# Altium footprint library Buzzer_Beeper.PcbLib: 35 footprints (part 2 of 3)
Each footprint in its own frame and in the unit in brackets; x right, y up, seen from the top. Pads: shape width x height; smd on the part's side, far side on the other; paste and mask are expansions set on the pad; w line width, h text height; cw(c..) or ccw(c..) is an arc to the next point about the centre after c.
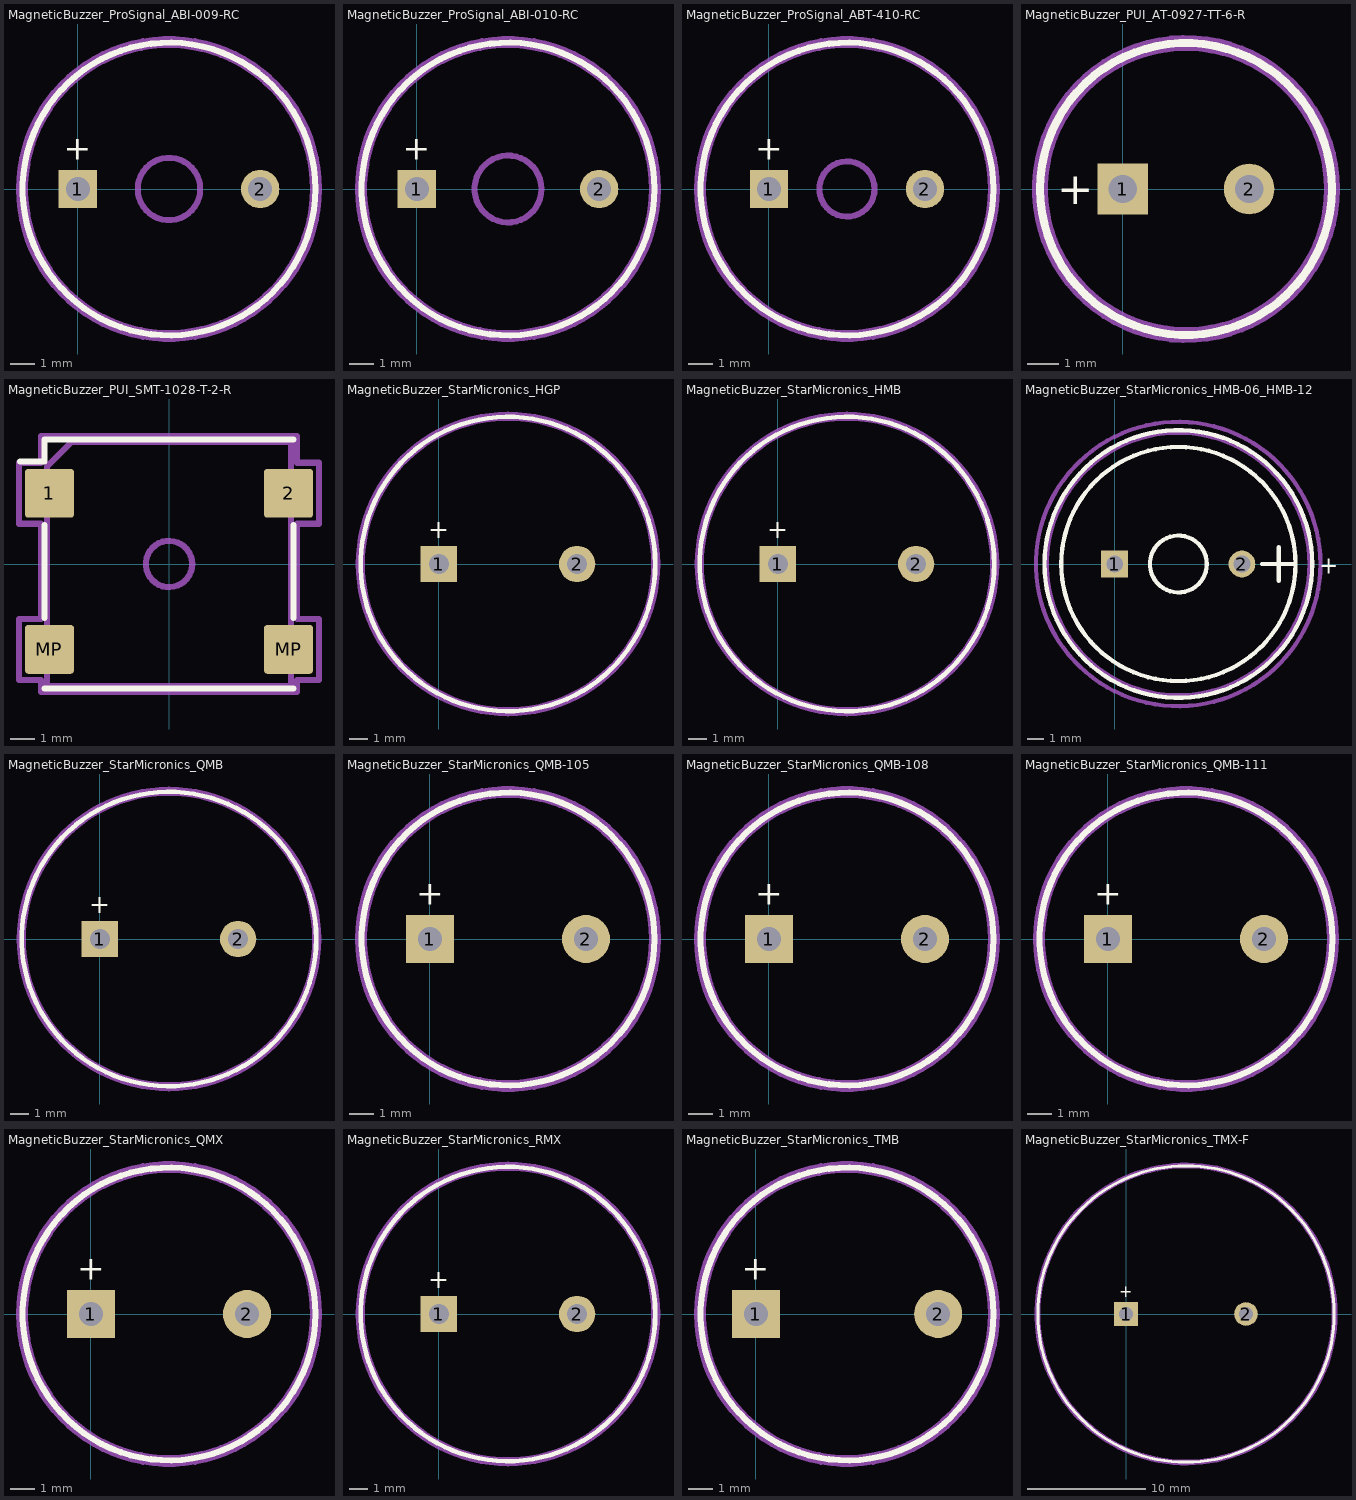
[diagram p1: the footprints below, top view; thin cyan lines are the x and y axes]

## MagneticBuzzer_ProSignal_ABI-009-RC [mm]
pads (2):
  rect 1.6x1.6 hole 1: 1(0,0)
  round 1.6 hole 1: 2(7.6,0)
F.SilkS:
  circle w0.254: c3.8,0 r6.1
  text "+" at -0.578,1.222 h1
Top Assembly:
  circle w0.254: c3.8,0 r6
  circle w0.254: c3.8,0 r1.3
  text "+" at -0.578,1.222 h1
  text "'.Designator'" at -0.247,6.16 h1
Top Courtyard:
  circle w0.254: c3.8,0 r6.25
Top Designator:
  text ".Designator" at -3.818,-0.018 h1.52
3D body "MagneticBuzzer_ProSignal_ABI-009-RC.step": height 9.53, standoff -3, extent -2.2,-6 9.8,6

## MagneticBuzzer_ProSignal_ABI-010-RC [mm]
pads (2):
  rect 1.6x1.6 hole 1: 1(0,0)
  round 1.6 hole 1: 2(7.6,0)
F.SilkS:
  circle w0.254: c3.8,0 r6.1
  text "+" at -0.578,1.222 h1
Top Assembly:
  circle w0.254: c3.8,0 r6
  circle w0.254: c3.8,0 r1.393
  text "'.Designator'" at -0.247,6.16 h1
  text "+" at -0.578,1.222 h1
Top Courtyard:
  circle w0.254: c3.8,0 r6.25
Top Designator:
  text ".Designator" at -3.818,-0.018 h1.52
3D body "MagneticBuzzer_ProSignal_ABI-010-RC.step": height 9.53, standoff -3, extent -2.2,-6 9.8,6

## MagneticBuzzer_ProSignal_ABT-410-RC [mm]
pads (2):
  rect 1.6x1.6 hole 1: 1(0,0)
  round 1.6 hole 1: 2(6.5,0)
F.SilkS:
  circle w0.254: c3.25,0 r6.1
  text "+" at -0.578,1.222 h1
Top Assembly:
  circle w0.254: c3.25,0 r6
  circle w0.254: c3.25,0 r1.15
  text "'.Designator'" at -0.797,6.16 h1
  text "+" at -0.578,1.222 h1
Top Courtyard:
  circle w0.254: c3.25,0 r6.25
Top Designator:
  text ".Designator" at -4.368,-0.018 h1.52
3D body "MagneticBuzzer_ProSignal_ABT-410-RC.step": height 8.53, standoff -3, extent -2.75,-6 9.25,6

## MagneticBuzzer_PUI_AT-0927-TT-6-R [mm]
pads (2):
  rect 1.6x1.6 hole 0.9: 1(0,0)
  round 1.6 hole 0.9: 2(4,0)
F.SilkS:
  circle w0.254: c2,0 r4.62
  text "+" at -2.078,-0.478 h1
Top Assembly:
  circle w0.254: c2,0 r4.5
  text "+" at -2.078,-0.478 h1
  text "'.Designator'" at -2.047,-2.84 h1
Top Courtyard:
  circle w0.254: c2,0 r4.75
Top Designator:
  text ".Designator" at -5.618,-0.508 h1.52

## MagneticBuzzer_PUI_SMT-1028-T-2-R [mm]
pads (4):
  rrect12% 2x2 smd: 1(-4.9,2.9) 2(4.9,2.9) MP(-4.9,-3.5) MP(4.9,-3.5)
F.SilkS:
  lines w0.254: -6.1,4.2 -5.1,4.2 -5.1,5.1 5.1,5.1 ; -5.1,-5.1 5.1,-5.1 ; -5.1,-2.2 -5.1,1.6 ; 5.1,-2.2 5.1,1.6
Top Assembly:
  lines w0.254: -5,-5 -5,4 -4,5 5,5 5,-5 -5,-5
  text "'.Designator'" at -3.947,-0.94 h1
  text "+" at -2.772,2.372 h1
Top Courtyard:
  lines w0.254: -6.15,-4.75 -6.15,-2.25 -5.25,-2.25 -5.25,1.65 -6.15,1.65 -6.15,4.15 -5.25,4.15 -5.25,5.25 5.25,5.25 5.25,4.15 6.15,4.15 6.15,1.65 5.25,1.65 5.25,-2.25 6.15,-2.25 6.15,-4.75 5.25,-4.75 5.25,-5.25 -5.25,-5.25 -5.25,-4.75 -6.15,-4.75
Top Designator:
  text ".Designator" at -7.618,-0.508 h1.52
Cmts.User:
  circle w0.254: c0,0 r0.95

## MagneticBuzzer_StarMicronics_HGP [mm]
pads (2):
  rect 2x2 hole 1.1: 1(0,0)
  round 2 hole 1.1: 2(7.6,0)
F.SilkS:
  circle w0.254: c3.8,0 r8.1
  text "+" at -0.578,1.422 h1
Top Assembly:
  circle w0.254: c3.8,0 r8
  text "'.Designator'" at -0.247,8.16 h1
  text "+" at -0.578,1.422 h1
Top Courtyard:
  circle w0.254: c3.8,0 r8.25
Top Designator:
  text ".Designator" at -3.818,-0.018 h1.52

## MagneticBuzzer_StarMicronics_HMB [mm]
pads (2):
  rect 2x2 hole 1.1: 1(0,0)
  round 2 hole 1.1: 2(7.6,0)
F.SilkS:
  circle w0.254: c3.8,0 r8.1
  text "+" at -0.578,1.422 h1
Top Assembly:
  circle w0.254: c3.8,0 r8
  text "'.Designator'" at -0.247,8.16 h1
  text "+" at -0.578,1.422 h1
Top Courtyard:
  circle w0.254: c3.8,0 r8.25
Top Designator:
  text ".Designator" at -3.818,-0.018 h1.52

## MagneticBuzzer_StarMicronics_HMB-06_HMB-12 [mil]
pads (2):
  rect 63x63 hole 39.4: 1(0,0)
  round 63 hole 39.4: 2(299.61,0)
F.SilkS:
  circle w10: c150,0 r66.9
  circle w10: c150,0 r275.6
  circle w10: c150,0 r315
  lines w10: 346.9,0 425.6,0 ; 386.2,-39.4 386.2,39.4
  text "+" at 481.53,-22.77 h39.37
Top Assembly:
  circle w10: c149.61,0 r309.12
  text "'.Designator'" at -1.84,85.03 h39.37
Top Courtyard:
  circle w10: c149.61,0 r334.65
Top Designator:
  text ".Designator" at -134.34,-19.99 h60
3D body "MagneticBuzzer_StarMicronics_HMB-06_HMB-12.step": height 552.36, standoff -236.22, extent -164.96,-314.95 464.96,314.97

## MagneticBuzzer_StarMicronics_QMB [mm]
pads (2):
  rect 2x2 hole 1.1: 1(0,0)
  round 2 hole 1.1: 2(7.6,0)
F.SilkS:
  circle w0.254: c3.8,0 r8.1
  text "+" at -0.578,1.422 h1
Top Assembly:
  circle w0.254: c3.8,0 r8
  text "+" at -0.578,1.422 h1
  text "'.Designator'" at -0.247,8.16 h1
Top Courtyard:
  circle w0.254: c3.8,0 r8.25
Top Designator:
  text ".Designator" at -3.818,-0.018 h1.52

## MagneticBuzzer_StarMicronics_QMB-105 [mm]
pads (2):
  rect 2x2 hole 1: 1(0,0)
  round 2 hole 1: 2(6.5,0)
F.SilkS:
  circle w0.254: c3.25,0 r6.1
  text "+" at -0.578,1.422 h1
Top Assembly:
  circle w0.254: c3.25,0 r6
  text "'.Designator'" at -0.797,6.16 h1
  text "+" at -0.578,1.422 h1
Top Courtyard:
  circle w0.254: c3.25,0 r6.25
Top Designator:
  text ".Designator" at -4.368,-0.018 h1.52

## MagneticBuzzer_StarMicronics_QMB-108 [mm]
pads (2):
  rect 2x2 hole 1: 1(0,0)
  round 2 hole 1: 2(6.5,0)
F.SilkS:
  circle w0.254: c3.25,0 r6.1
  text "+" at -0.578,1.422 h1
Top Assembly:
  circle w0.254: c3.25,0 r6
  text "'.Designator'" at -0.797,6.16 h1
  text "+" at -0.578,1.422 h1
Top Courtyard:
  circle w0.254: c3.25,0 r6.25
Top Designator:
  text ".Designator" at -4.368,-0.018 h1.52

## MagneticBuzzer_StarMicronics_QMB-111 [mm]
pads (2):
  rect 2x2 hole 1: 1(0,0)
  round 2 hole 1: 2(6.5,0)
F.SilkS:
  circle w0.254: c3.25,0 r6.1
  text "+" at -0.578,1.422 h1
Top Assembly:
  circle w0.254: c3.25,0 r6
  text "'.Designator'" at -0.797,6.16 h1
  text "+" at -0.578,1.422 h1
Top Courtyard:
  circle w0.254: c3.25,0 r6.25
Top Designator:
  text ".Designator" at -4.368,-0.018 h1.52

## MagneticBuzzer_StarMicronics_QMX [mm]
pads (2):
  rect 2x2 hole 1: 1(0,0)
  round 2 hole 1: 2(6.5,0)
F.SilkS:
  circle w0.254: c3.25,0 r6.1
  text "+" at -0.578,1.422 h1
Top Assembly:
  circle w0.254: c3.25,0 r6
  text "'.Designator'" at -0.797,6.16 h1
  text "+" at -0.578,1.422 h1
Top Courtyard:
  circle w0.254: c3.25,0 r6.25
Top Designator:
  text ".Designator" at -4.368,-0.018 h1.52

## MagneticBuzzer_StarMicronics_RMX [mm]
pads (2):
  rect 2x2 hole 1.1: 1(0,0)
  round 2 hole 1.1: 2(7.6,0)
F.SilkS:
  circle w0.254: c3.8,0 r8.1
  text "+" at -0.578,1.422 h1
Top Assembly:
  circle w0.254: c3.8,0 r8
  text "'.Designator'" at -0.247,8.16 h1
  text "+" at -0.578,1.422 h1
Top Courtyard:
  circle w0.254: c3.8,0 r8.25
Top Designator:
  text ".Designator" at -3.818,-0.018 h1.52

## MagneticBuzzer_StarMicronics_TMB [mm]
pads (2):
  rect 2x2 hole 1: 1(0,0)
  round 2 hole 1: 2(7.6,0)
F.SilkS:
  circle w0.254: c3.8,0 r6.1
  text "+" at -0.578,1.422 h1
Top Assembly:
  circle w0.254: c3.8,0 r6
  text "'.Designator'" at -0.247,6.16 h1
  text "+" at -0.578,1.422 h1
Top Courtyard:
  circle w0.254: c3.8,0 r6.25
Top Designator:
  text ".Designator" at -3.818,-0.018 h1.52

## MagneticBuzzer_StarMicronics_TMX-F [mm]
pads (2):
  rect 2x2 hole 1.2: 1(0,0)
  round 2 hole 1.2: 2(10.2,0)
F.SilkS:
  circle w0.254: c5.1,0 r12.6
  text "+" at -0.578,1.422 h1
Top Assembly:
  circle w0.254: c5.1,0 r12.5
  text "'.Designator'" at 1.053,12.66 h1
  text "+" at -0.578,1.422 h1
Top Courtyard:
  circle w0.254: c5.1,0 r12.75
Top Designator:
  text ".Designator" at -2.518,-0.018 h1.52